# EAGLE library part DS3231 (library DS3231)
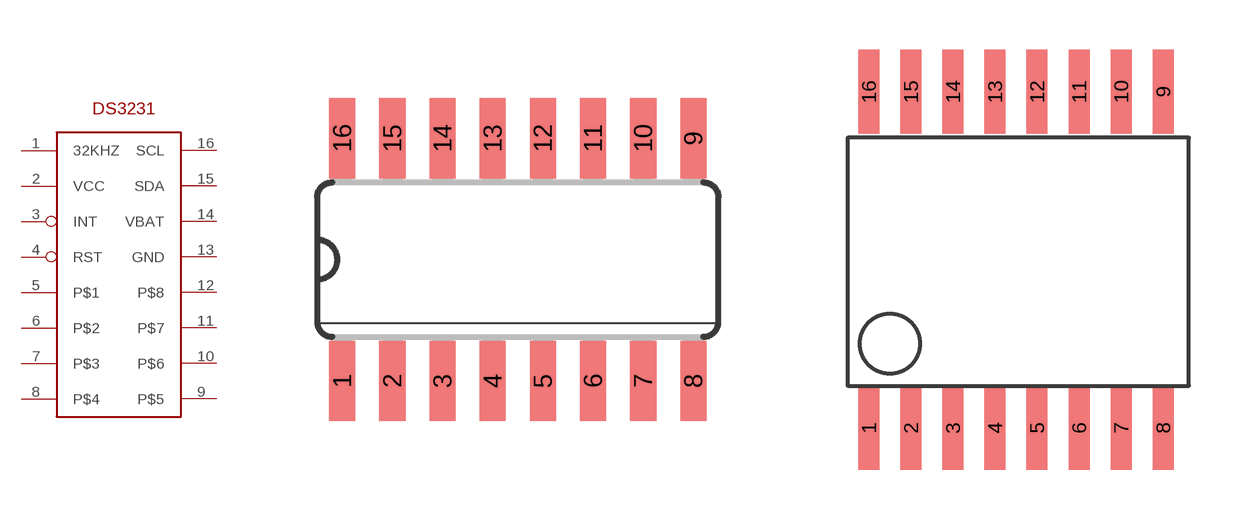
[diagram p0: symbol with the pads of SO16; footprints SO16, SO16W]

Designator prefix -

## DS3231 (Availability: Unavailable; MF: Maxim Integrated; MP: DS3231; Package: None; Price: None)  [SO16]
1  32KHZ  out
2  VCC  in
3  INT
4  RST
5  P$1  nc
6  P$2  nc
7  P$3  nc
8  P$4  nc
9  P$5  nc
10  P$6  nc
11  P$7  nc
12  P$8  nc
13  GND
14  VBAT
15  SDA
16  SCL

## DS3231WIDE (Availability: Unavailable; MF: Maxim Integrated; MP: DS3231; Package: None; Price: None)  [SO16W]
Pads as for SO16

## Footprint SO16 (pad centres in mm)
smd 0.66 x 2.032: 1 -4.445,-3.073; 2 -3.175,-3.073; 3 -1.905,-3.073; 4 -0.635,-3.073; 5 0.635,-3.073; 6 1.905,-3.073; 7 3.175,-3.073; 8 4.445,-3.073; 9 4.445,3.073; 10 3.175,3.073; 11 1.905,3.073; 12 0.635,3.073; 13 -0.635,3.073; 14 -1.905,3.073; 15 -3.175,3.073; 16 -4.445,3.073

## Footprint SO16W (pad centres in mm)
smd 0.635 x 2.54: 1 0.635,-1.27; 2 1.905,-1.27; 3 3.175,-1.27; 4 4.445,-1.27; 5 5.715,-1.27; 6 6.985,-1.27; 7 8.255,-1.27; 8 9.525,-1.27; 9 9.525,8.89; 10 8.255,8.89; 11 6.985,8.89; 12 5.715,8.89; 13 4.445,8.89; 14 3.175,8.89; 15 1.905,8.89; 16 0.635,8.89